# EAGLE library part AD835 (library Radio)
Multiplieur 250 MHz
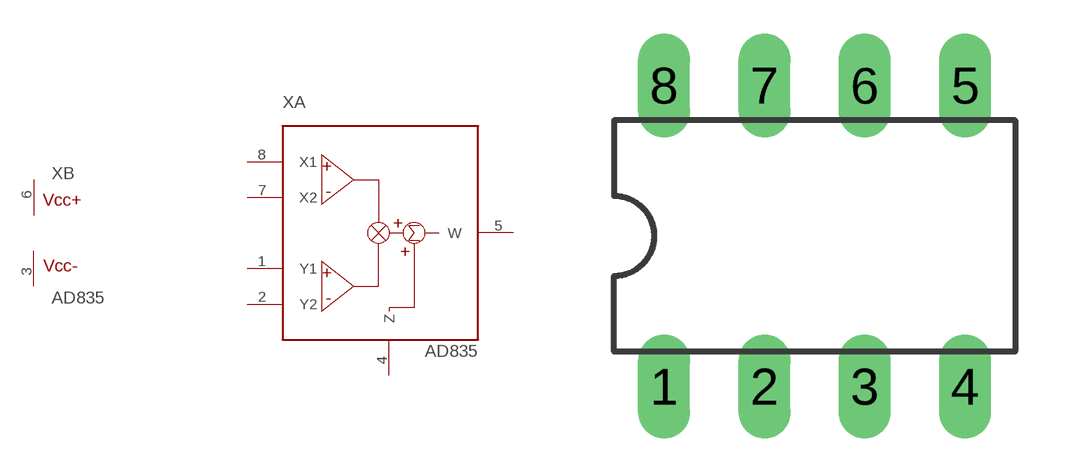
[diagram p4: symbol with the pads of DIL08; footprint DIL08]

Designator prefix X; gates A=AD835 B=ALIM

## AD835  [DIL08]
1  A:Y1  in
2  A:Y2  in
3  B:VCC-  pwr
4  A:Z  in
5  A:W  out
6  B:VCC+  pwr
7  A:X2  in
8  A:X1  in

## Footprint DIL08 (pad centres in mm)
drill 0.813 pad 1.27 long: 1 -2.54,-3.81; 2 0,-3.81; 3 2.54,-3.81; 4 5.08,-3.81; 5 5.08,3.81; 6 2.54,3.81; 7 0,3.81; 8 -2.54,3.81